# EAGLE library part 6623XX131822_662306131822 (library WR-MPC3)
WR-MPC3 3.00 mm SMT Male Single Vertical Header with SMT Solder Tab KIND PROPERTIES Pitch 3 mm Gender Male MATERIAL PROPERTIES Insulator Material LCP Insulator Flammability Rating UL94 V-0 Insulator Color Black Contact Material Copper Alloy Contact Plating Tin Contact Type Stamped GENERAL INFORMATION Operating Temperature -40 up to +105 °C Working Voltage 250 V (AC) Withstanding Voltage 1500 V (AC) Contact Resistance 10 mΩ RISO 1000 MΩ CERTIFICATION UL Approval E323964 WIRE PROPERTIES Packaging Tape and Reel with Cap <https://katalog.we-online.com/media/images/v2/o150745v209%20Family_WR-MPC3_6623xx131822.jpg> Details see: https://katalog.we-online.com/en/em/MPC3_3_00_SMT_MALE_SINGLE_ROW_VERTICAL_W_SMT_SOLDER_TAB_6623XX131822 Created by Yingchun,Shan 2019-11-14 2019 (C) Würth Elektronik
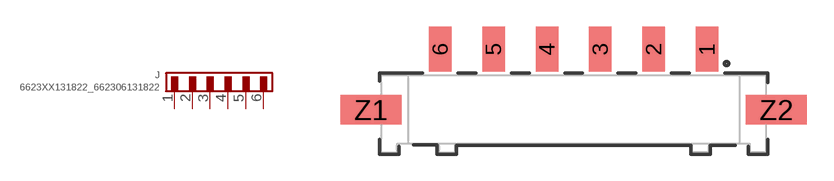
[diagram p67: symbol with the pads of 662306131822; footprint 662306131822]

Designator prefix J

## 6623XX131822_662306131822 (CONTACT-RESISTANCE: 10Ohm; DATASHEET-URL: https://www.we-online.com/redexpert/spec/662306131822?ae; GENDER: Male; IR: 5A; MOUNT: SMT; PART-NUMBER: 662306131822; PINS: 6; PITCH: 3mm; ROWS: Single; TOL-R: max.; TYPE: Vertical; VALUE: 662306131822; WORKING-VOLTAGE: 250V(AC))  [662306131822]
1  1  pas
2  2  pas
3  3  pas
4  4  pas
5  5  pas
6  6  pas

## Footprint 662306131822 (pad centres in mm)
WR-MPC3 3.00 mm SMT Male Single Vertical Header with SMT Solder Tab,6Pins
smd 1.27 x 2.54: 1 7.5,3.385; 2 4.5,3.385; 3 1.5,3.385; 4 -1.5,3.385; 5 -4.5,3.385; 6 -7.5,3.385
smd 3.43 x 1.65: Z1 -11.395,-0.035; Z2 11.395,-0.035